# EAGLE library part 79107-10 (library con-molex-milli-grid)
RECEPTACAL
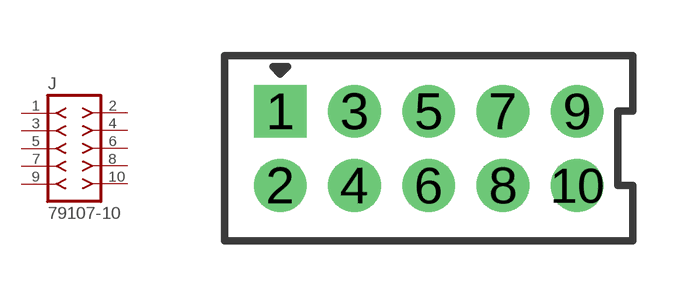
[diagram p139: symbol with the pads of 79107-10; footprint 79107-10]

Designator prefix J

## 79107-10  [79107-10]
1  1  pas
2  2  pas
3  3  pas
4  4  pas
5  5  pas
6  6  pas
7  7  pas
8  8  pas
9  9  pas
10  10  pas

## Footprint 79107-10 (pad centres in mm)
RECEPTACAL Dual Row, Vertical, Through-Hole
drill 0.914 square: 1 -4,1
drill 0.914: 2 -4,-1; 3 -2,1; 4 -2,-1; 5 0,1; 6 0,-1; 7 2,1; 8 2,-1; 9 4,1; 10 4,-1